# EAGLE library part ESP-12F (library reclone-rise)
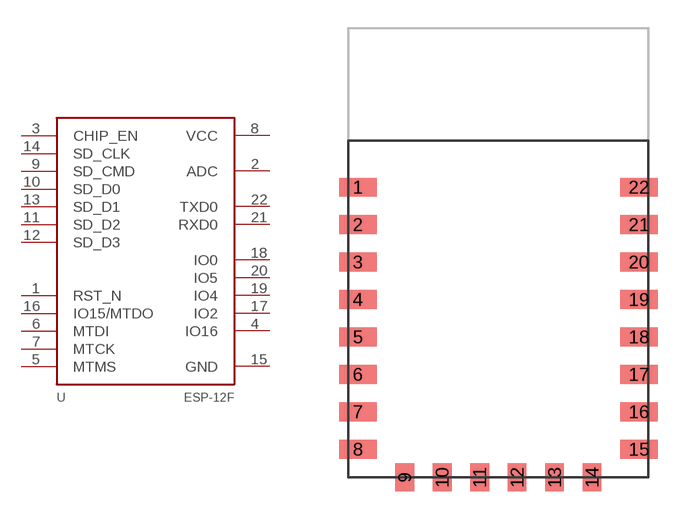
[diagram p19: symbol with the pads of ESP-12F; footprint ESP-12F]

Designator prefix -

## ESP-12F  [ESP-12F]
1  RST_N
2  ADC
3  CHIP_EN
4  IO16
5  MTMS
6  MTDI
7  MTCK
8  VCC
9  SD_CMD
10  SD_D0
11  SD_D2
12  SD_D3
13  SD_D1
14  SD_CLK
15  GND
16  IO15/MTDO
17  IO2
18  IO0
19  IO4
20  IO5
21  RXD0
22  TXD0

## Footprint ESP-12F (pad centres in mm)
smd 2 x 1: 1 -7.5,-2.5; 2 -7.5,-4.5; 3 -7.5,-6.5; 4 -7.5,-8.5; 5 -7.5,-10.5; 6 -7.5,-12.5; 7 -7.5,-14.5; 8 -7.5,-16.5; 15 7.5,-16.5; 16 7.5,-14.5; 17 7.5,-12.5; 18 7.5,-10.5; 19 7.5,-8.5; 20 7.5,-6.5; 21 7.5,-4.5; 22 7.5,-2.5
smd 1 x 1.5: 9 -5,-18; 10 -3,-18; 11 -1,-18; 12 1,-18; 13 3,-18; 14 5,-18